# Altium schematic symbol library My_lib.SchLib: 144 symbols (part 2 of 2)
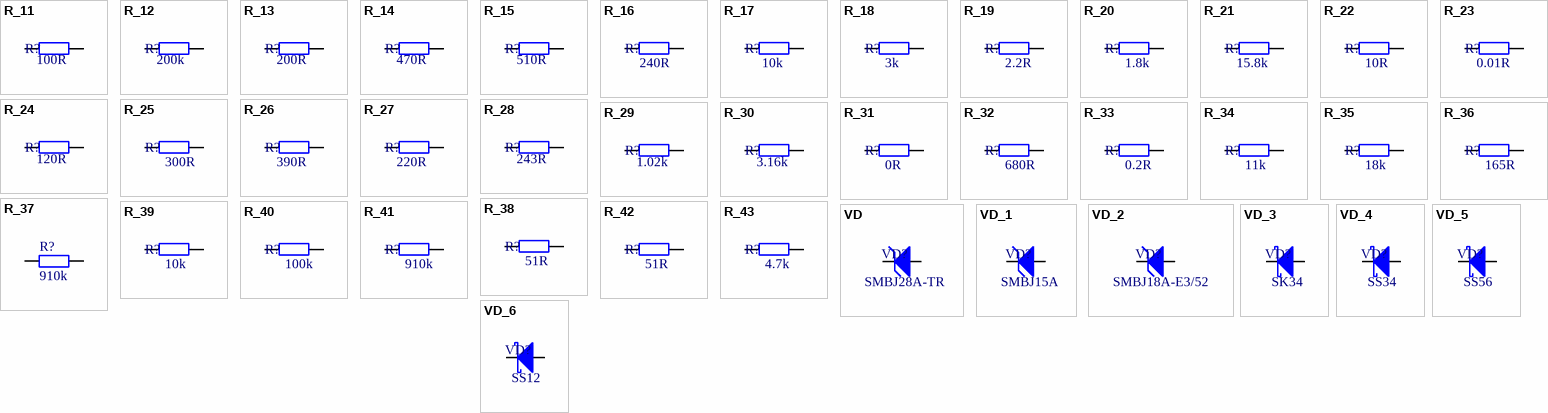
[diagram p4: symbols R_11 to VD_6]

## R_43
designator R?  value 4.7k
RES SMD 4.7k OHM 5% 0.062W 0402; Family: Резистор; Package: 0402; Montage: SMD; Tolerance: 5%
simulation model RESISTOR (Resistor)
signal-integrity model Res
footprint R_0402 (Chip, Body 1.6x0.85mm, IPC High Density)
pins: 1, 2

## VD
designator VD?  value SMBJ28A-TR
DIODE SMD Супрессор SMBJ28A-TR 32.7v 600Вт SMB; Manufacturer: STMicroelectronics; Family: Диод; Montage: SMD; Type: Супрессор; Voltage: 32.7v; Package: SMB; Power: 600Вт
footprint SMB (SMB; 2 Leads)
pins: 1 A, 2 K

## VD_1
designator VD?, comment value SMBJ15A  (hidden comment: Супрессор)
DIODE SMD Супрессор SMBJ15A 17.6v 600Вт SMB; Family: Диод; Montage: SMD; Type: Супрессор; Voltage: 17.6v; Package: SMB; Power: 600Вт
footprint SMB (SMB; 2 Leads)
pins: 1 A, 2 K

## VD_2
designator VD?  value SMBJ18A-E3/52
DIODE SMD Супрессор SMBJ18A-E3/52 19.9v 600Вт SMB; Manufacturer: Vishay; Family: Диод; Montage: SMD; Type: Супрессор; Voltage: 19.9v; Package: SMB; Power: 600Вт
footprint SMB (SMB; 2 Leads)
pins: 1 A, 2 K

## VD_3
designator VD?  value SK34
DIODE SMD Шоттки SK34 3A 40v SMC; Manufacturer: Diodes Inc.; Family: Диод; Montage: SMD; Type: Шоттки; Voltage: 40v; Package: SMC; Current: 3A
footprint SMC (SMC; 2 Leads)
pins: 1 A, 2 K

## VD_4
designator VD?  value SS34
DIODE SMD Шоттки SS34 3A 40v SMC; Manufacturer: Diodes Inc.; Family: Диод; Montage: SMD; Type: Шоттки; Voltage: 40v; Package: SMC; Current: 3A
footprint SMC (SMC; 2 Leads)
pins: 1 A, 2 K

## VD_5
designator VD?  value SS56
DIODE SMD Шоттки SS56 5A 60v SMC; Manufacturer: Diodes Inc.; Family: Диод; Montage: SMD; Type: Шоттки; Voltage: 60v; Package: SMC; Current: 5A
footprint SMC (SMC; 2 Leads)
pins: 1 A, 2 K

## VD_6
designator VD?  value SS12
DIODE SMD Шоттки SS12 1A 20v SMA; Manufacturer: Diodes Inc.; Family: Диод; Montage: SMD; Type: Шоттки; Voltage: 20v; Package: SMA; Current: 1A
footprint SMA (SMA; 2 Leads)
pins: 1 A, 2 K

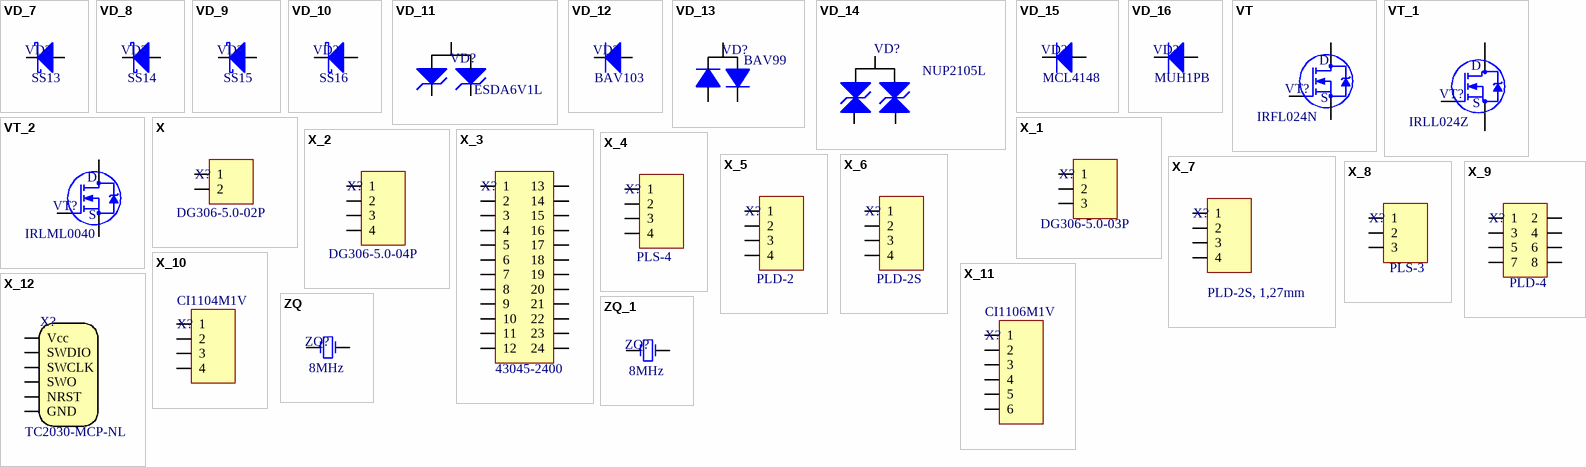
[diagram p3: symbols VD_7 to ZQ_1]

## VD_7
designator VD?  value SS13
DIODE SMD Шоттки SS13 1A 30v SMA; Manufacturer: Diodes Inc.; Voltage: 20v; Family: Диод; Montage: SMD; Type: Шоттки; Package: SMA; Current: 1A
footprint SMA (SMA; 2 Leads)
pins: 1 A, 2 K

## VD_8
designator VD?  value SS14
DIODE SMD Шоттки SS14 1A 40v SMA; Manufacturer: Diodes Inc.; Voltage: 20v; Family: Диод; Montage: SMD; Type: Шоттки; Package: SMA; Current: 1A
footprint SMA (SMA; 2 Leads)
pins: 1 A, 2 K

## VD_9
designator VD?  value SS15
DIODE SMD Шоттки SS15 1A 50v SMA; Manufacturer: Diodes Inc.; Voltage: 20v; Family: Диод; Montage: SMD; Type: Шоттки; Package: SMA; Current: 1A
footprint SMA (SMA; 2 Leads)
pins: 1 A, 2 K

## VD_10
designator VD?  value SS16
DIODE SMD Шоттки SS16 1A 60v SMA; Manufacturer: Diodes Inc.; Voltage: 20v; Family: Диод; Montage: SMD; Type: Шоттки; Package: SMA; Current: 1A
footprint SMA (SMA; 2 Leads)
pins: 1 A, 2 2.

## VD_11
designator VD?  value ESDA6V1L
DIODE SMD Супрессор ESDA6V1L 7.2v 300Вт SOT23; Manufacturer: STMicroelectronics; Voltage: 32.7v; Family: Диод; Montage: SMD; Type: Супрессор; Package: SOT23; Power: 300Вт
footprint SOT23 (SOT23, 3-Leads, Body 2.9x1.3mm, Pitch 0.95mm, Lead Span 2.3mm - Reverse Pinning, IPC Medium Density)
pins: 1 K, 2 A, 3 K

## VD_12
designator VD?  value BAV103
DIODE SMD Полупроводниковый BAV103 250mA 200v SOD80C; Manufacturer: NXP; Family: Диод; Montage: SMD; Type: Полупроводниковый; Voltage: 200v; Package: SOD80C; Current: 250mA
footprint SOD80C (Chip, Body 3.7x1.6mm)
pins: 1 K, 2 A

## VD_13
designator VD?  value BAV99
DIODE SMD Полупроводниковый BAV99 200mA 70v SOT23; Manufacturer: Fairchild; Family: Диод; Montage: SMD; Type: Полупроводниковый; Voltage: 70v; Package: SOT23; Current: 200mA
footprint SOT23 (SOT23, 3-Leads, Body 2.9x1.3mm, Pitch 0.95mm, Lead Span 2.3mm - Reverse Pinning, IPC Medium Density)
pins: 1 K, 2 A, 3 A

## VD_14
designator VD?  value NUP2105L
DIODE SMD Супрессор NUP2105L 26.2v 350Вт SOT23; Manufacturer: ON Semiconductor; Family: Диод; Montage: SMD; Type: Супрессор; Voltage: 26.2v; Package: SOT23; Power: 350Вт
footprint SOT23 (SOT23, 3-Leads, Body 2.9x1.3mm, Pitch 0.95mm, Lead Span 2.3mm - Reverse Pinning, IPC Medium Density)
pins: 1 K, 2 A, 3 K

## VD_15
designator VD?  value MCL4148
DIODE SMD Полупроводниковый MCL4148 200mA 75v MicroMELF; Manufacturer: Vishay; Family: Диод; Montage: SMD; Type: Полупроводниковый; Voltage: 75v; Package: MicroMELF; Current: 200mA
footprint MicroMELF (Chip, Body 3.7x1.6mm)
signal-integrity model Cap
simulation model CAP
pins: 1 K, 2 A

## VD_16
designator VD?  value MUH1PB
DIODE SMD Полупроводниковый MUH1PB 1A 100v MicroSMP; Manufacturer: Vishay; Family: Диод; Montage: SMD; Type: Полупроводниковый; Voltage: 100v; Package: MicroSMP; Current: 1A
signal-integrity model Cap
simulation model CAP
footprint MicroSMP (MicroSMP; 2 Leads)
pins: 1 A, 2 K

## VT
designator VT?  value IRFL024N
TRANSISTOR SMD MOSFET IRFL024N 2.8A 55v 0.075Ω SOT-223; Manufacturer: International Rectifier; Structure: N-channel; Family: Транзистор; Montage: SMD; Type: MOSFET; Voltage: 55v; Package: SOT-223; Current: 2.8A; Resistance: 0.075Ω
footprint SOT23 (SOT23, 3-Leads, Body 2.9x1.3mm, Pitch 0.95mm, Lead Span 2.3mm - Reverse Pinning, IPC Medium Density)
pins: 1 G, 2 D, 3 S

## VT_1
designator VT?  value IRLL024Z
TRANSISTOR SMD MOSFET IRLL024Z 5A 55v 0.06Ω SOT-223; Manufacturer: International Rectifier; Structure: N-channel; Family: Транзистор; Montage: SMD; Type: MOSFET; Voltage: 55v; Package: SOT-223; Current: 5A; Resistance: 0.06Ω
footprint SOT223-3 (SOT223, 4-Leads, Body 6.5x3.5mm, Pitch 2.3mm, Lead Span 7mm, IPC Medium Density)
pins: 1 G, 2 D, 3 S

## VT_2
designator VT?  value IRLML0040
TRANSISTOR SMD MOSFET IRLML0040 3.6A 40v 0.078Ω SOT23; Manufacturer: International Rectifier; Structure: N-channel; Family: Транзистор; Montage: SMD; Type: MOSFET; Voltage: 40v; Package: SOT23; Current: 3.6A; Resistance: 0.078Ω
footprint SOT23 (SOT23, 3-Leads, Body 2.9x1.3mm, Pitch 0.95mm, Lead Span 2.3mm - Reverse Pinning, IPC Medium Density)
signal-integrity model Cap
simulation model CAP
pins: 1 G, 2 D, 3 S

## X
designator X?  value DG306-5.0-02P
CON 2pin DG306-5.0-02P Гнездо Розетка; Montage: Выводной; Contacts: 2; Family: Соединитель; Type: Гнездо; Contact_type: Розетка
footprint DG306-5.0-02p (DG306-5.0-2p Connector)
pins: 1, 2

## X_1
designator X?  value DG306-5.0-03P
CON 3pin DG306-5.0-03P Гнездо Розетка; Montage: Выводной; Contacts: 3; Family: Соединитель; Type: Гнездо; Contact_type: Розетка
footprint DG306-5.0-03p (DG306-5.0-3p Connector)
pins: 1, 2, 3

## X_2
designator X?  value DG306-5.0-04P
CON 4pin DG306-5.0-04P Гнездо Розетка; Montage: Выводной; Contacts: 4; Family: Соединитель; Type: Гнездо; Contact_type: Розетка
footprint DG306-5.0-04p (DG306-5.0-4p Connector)
pins: 1, 2, 3, 4

## X_3
designator X?  value 43045-2400
CON 24pin 43045-2400 Гнездо Розетка; Montage: Выводной; Contacts: 24; Family: Соединитель; Type: Гнездо; Contact_type: Розетка
footprint 43045-2400 (43045-2400 Molex Connector)
pins: 1, 2, 3, 4, 5, 6, 7, 8, 9, 10, 11, 12, 13, 14, 15, 16, 17, 18, 19, 20, 21, 22, 23, 24

## X_4
designator X?  value PLS-4
CON 4pin PLS-4 Гнездо Вилка; Montage: Выводной; Contacts: 4; Family: Соединитель; Type: Гнездо; Contact_type: Вилка
footprint PLS_4 (Connector; Header; 4 Position)
pins: 1, 2, 3, 4

## X_5
designator X?  value PLD-2
CON 4pin PLD-2 Гнездо Вилка; Montage: Выводной; Contacts: 4; Family: Соединитель; Type: Гнездо; Contact_type: Вилка
footprint PLD_2 (Connector; Header; 2x2 Position)
pins: 1, 2, 3, 4

## X_6
designator X?  value PLD-2S
CON 4pin PLD-2S Гнездо Вилка; Montage: Выводной; Contacts: 4; Family: Соединитель; Type: Гнездо; Contact_type: Вилка
footprint PLD2-4S
pins: 1, 2, 3, 4

## X_7
designator X?  value PLD-2S, 1,27mm
CON 4pin PLD-2S, 1,27mm Гнездо Вилка; Montage: Выводной; Contacts: 4; Family: Соединитель; Type: Гнездо; Contact_type: Вилка
footprint PLD_4S 1.27mm
pins: 1, 2, 3, 4

## X_8
designator X?  value PLS-3
CON 3pin PLS-3 Гнездо Вилка; Montage: Выводной; Contacts: 3; Family: Соединитель; Type: Гнездо; Contact_type: Вилка
footprint PLS_3 (Connector; Header; 3 Position)
pins: 1, 2, 3

## X_9
designator X?  value PLD-4
CON 8pin PLD-4 Гнездо Вилка; Montage: Выводной; Contacts: 8; Family: Соединитель; Type: Гнездо; Contact_type: Вилка
footprint PLD_4 (Connector; Header; 4x2 Position)
pins: 1, 2, 3, 4, 5, 6, 7, 8

## X_10
designator X?  value СI1104М1V
CON 4pin СI1104М1V Гнездо Розетка; Montage: SMD; Contacts: 4; Family: Соединитель; Type: Гнездо; Contact_type: Розетка
footprint DG306-5.0-04p (DG306-5.0-4p Connector)
pins: 1, 2, 3, 4

## X_11
designator X?  value СI1106М1V
CON 6pin СI1106М1V Гнездо Розетка; Montage: SMD; Contacts: 6; Family: Соединитель; Type: Гнездо; Contact_type: Розетка
footprint CI1106М1V (СI1106М1V - 6 pin SMD connector, 1 mm pitch)
pins: 1, 2, 3, 4, 5, 6

## X_12
designator X?, comment value TC2030-MCP-NL  (hidden comment: ICD connector)  (no BOM)
TC2030-MCP-NL Conector par ICD
footprint TC2030-MCP-NL (Conector ICD en placa)
pins: 1 Vcc, 2 SWDIO, 3 SWCLK, 4 SWO, 5 NRST, 6 GND

## ZQ
designator ZQ?  value 8MHz
XTAL SMD 8MHz MJ0532; Manufacturer: Murrata; Frequency deviation: 30ppm; Temperature stability: 20ppm; Package: MJ0532; Type: Кварцевый резонатор; Family: Резонатор; Montage: SMD
simulation model XTAL (Spice Subcircuit)
footprint Crystal_0532
pins: 0 3 hidden to Gnd, 1 OSC1, 2 OSC2

## ZQ_1
designator ZQ?  value 8MHz
XTAL SMD 8MHz ZQ3225; Manufacturer: Murata; Frequency deviation: 30ppm; Temperature stability: 15ppm; Package: ZQ3225; Type: Кварцевый резонатор; Family: Резонатор; Montage: SMD
simulation model XTAL (Spice Subcircuit)
footprint ZQ3225
pins: 0 3 hidden to Gnd, 1 OSC1, 2 OSC2